# Altium schematic symbol library altera-cyclone.SchLib: 2 symbols
Pins are listed as number, name and electrical type; pins without a type are passive.

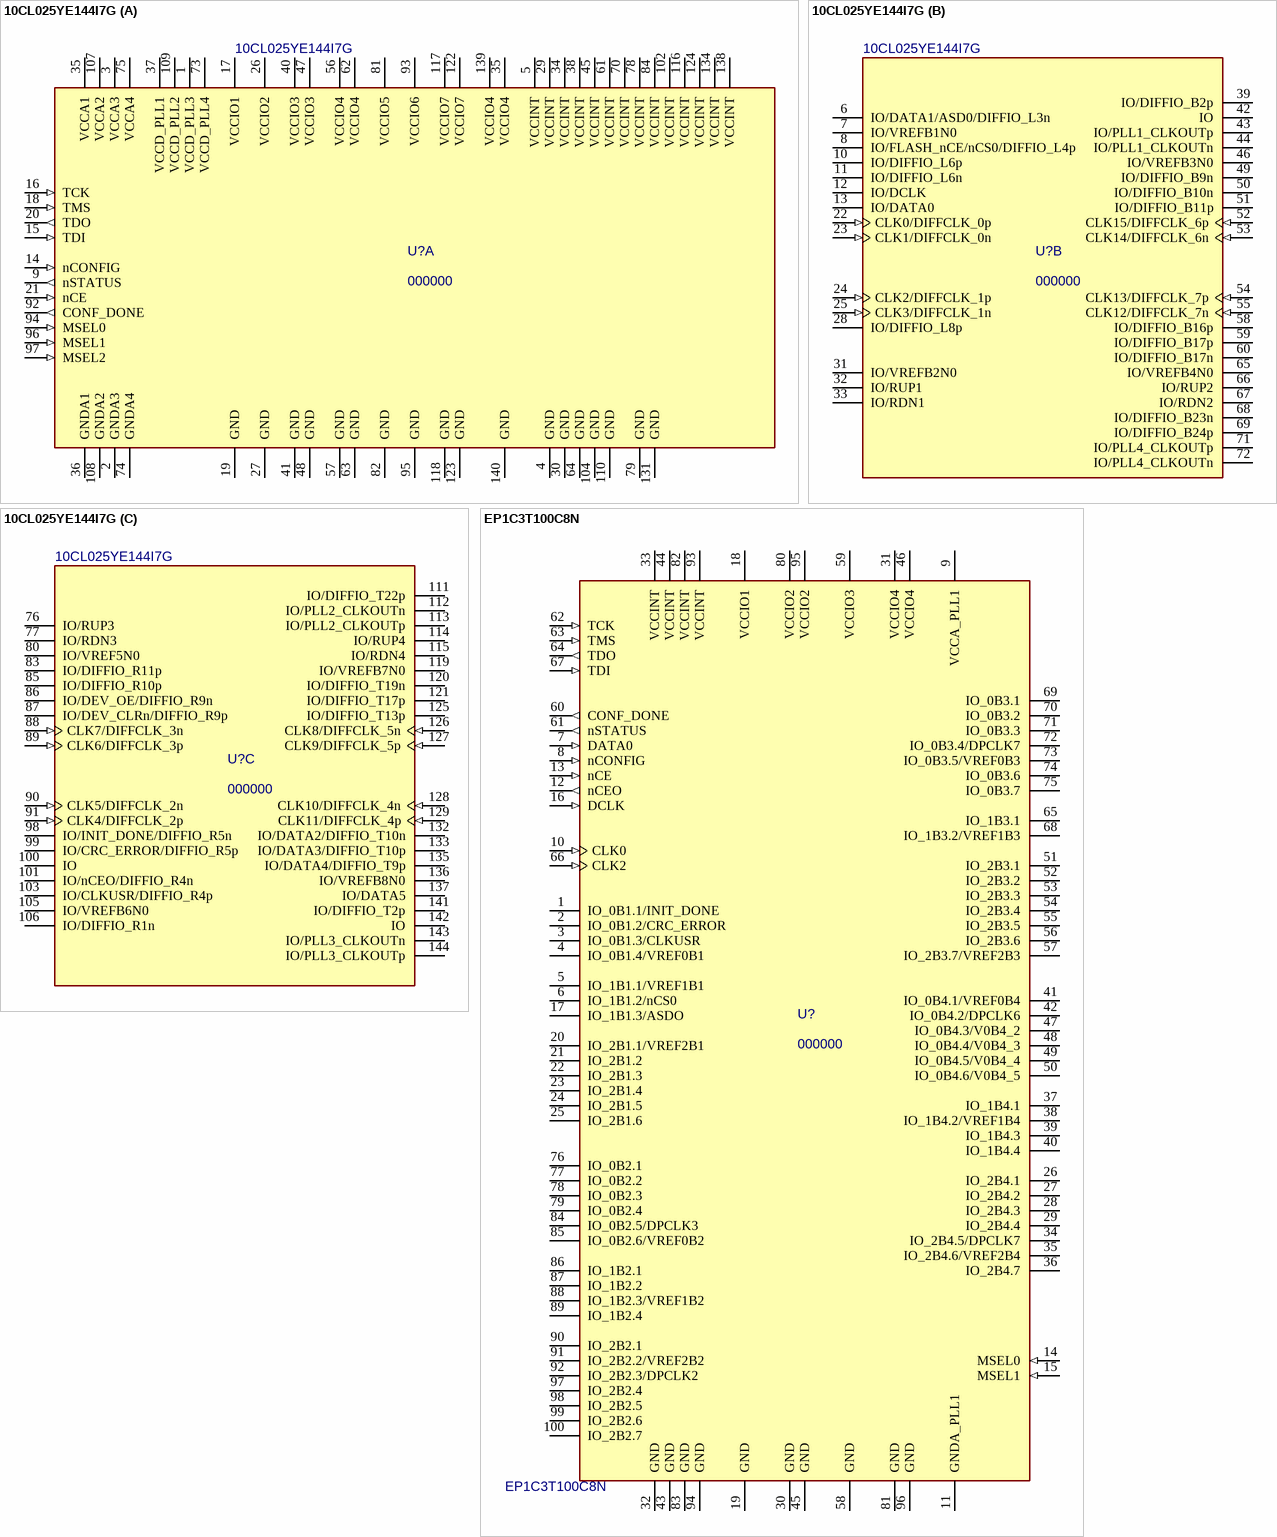
[diagram p0: symbols 10CL025YE144I7G to EP1C3T100C8N]

## 10CL025YE144I7G
designator U?, comment 000000  value 10CL025YE144I7G
MF: Xilinx; Package: 144-EQFP; PN: 000000; ExtraInfo: *; MF PN: 10CL025YE144I7G; Price: 25.93750; Digi-Key PN: 544-3390-ND
footprint EQFP-144 (TSQFP, 144-Leads, Body 20.00x20.00mm, Pitch 0.50mm, IPC Medium Density)
part A pins: 1 VCCD_PLL3 (power), 2 GNDA3 (power), 3 VCCA3 (power), 4 GND (power), 5 VCCINT (power), 9 nSTATUS (out), 14 nCONFIG (in), 15 TDI (in), 16 TCK (in), 17 VCCIO1 (power), 18 TMS (in), 19 GND (power), 20 TDO (out), 21 nCE (in), 26 VCCIO2 (power), 27 GND (power), 29 VCCINT (power), 30 GND (power), 34 VCCINT (power), 35 VCCA1 (power), 35 VCCIO4 (power), 36 GNDA1 (power), 37 VCCD_PLL1 (power), 38 VCCINT (power), 40 VCCIO3 (power), 41 GND (power), 45 VCCINT (power), 47 VCCIO3 (power), 48 GND (power), 56 VCCIO4 (power), 57 GND (power), 61 VCCINT (power), 62 VCCIO4 (power), 63 GND (power), 64 GND (power), 70 VCCINT (power), 73 VCCD_PLL4 (power), 74 GNDA4 (power), 75 VCCA4 (power), 78 VCCINT (power), 79 GND (power), 81 VCCIO5 (power), 82 GND (power), 84 VCCINT (power), 92 CONF_DONE (out), 93 VCCIO6 (power), 94 MSEL0 (in), 95 GND (power), 96 MSEL1 (in), 97 MSEL2 (in), 102 VCCINT (power), 104 GND (power), 107 VCCA2 (power), 108 GNDA2 (power), 109 VCCD_PLL2 (power), 110 GND (power), 116 VCCINT (power), 117 VCCIO7 (power), 118 GND (power), 122 VCCIO7 (power), 123 GND (power), 124 VCCINT (power), 131 GND (power), 134 VCCINT (power), 138 VCCINT (power), 139 VCCIO4 (power), 140 GND (power)
part B pins: 6 IO/DATA1/ASD0/DIFFIO_L3n, 7 IO/VREFB1N0, 8 IO/FLASH_nCE/nCS0/DIFFIO_L4p, 10 IO/DIFFIO_L6p, 11 IO/DIFFIO_L6n, 12 IO/DCLK, 13 IO/DATA0, 22 CLK0/DIFFCLK_0p (in), 23 CLK1/DIFFCLK_0n (in), 24 CLK2/DIFFCLK_1p (in), 25 CLK3/DIFFCLK_1n (in), 28 IO/DIFFIO_L8p, 31 IO/VREFB2N0, 32 IO/RUP1, 33 IO/RDN1, 39 IO/DIFFIO_B2p, 42 IO, 43 IO/PLL1_CLKOUTp, 44 IO/PLL1_CLKOUTn, 46 IO/VREFB3N0, 49 IO/DIFFIO_B9n, 50 IO/DIFFIO_B10n, 51 IO/DIFFIO_B11p, 52 CLK15/DIFFCLK_6p (in), 53 CLK14/DIFFCLK_6n (in), 54 CLK13/DIFFCLK_7p (in), 55 CLK12/DIFFCLK_7n (in), 58 IO/DIFFIO_B16p, 59 IO/DIFFIO_B17p, 60 IO/DIFFIO_B17n, 65 IO/VREFB4N0, 66 IO/RUP2, 67 IO/RDN2, 68 IO/DIFFIO_B23n, 69 IO/DIFFIO_B24p, 71 IO/PLL4_CLKOUTp, 72 IO/PLL4_CLKOUTn
part C pins: 76 IO/RUP3, 77 IO/RDN3, 80 IO/VREF5N0, 83 IO/DIFFIO_R11p, 85 IO/DIFFIO_R10p, 86 IO/DEV_OE/DIFFIO_R9n, 87 IO/DEV_CLRn/DIFFIO_R9p, 88 CLK7/DIFFCLK_3n (in), 89 CLK6/DIFFCLK_3p (in), 90 CLK5/DIFFCLK_2n (in), 91 CLK4/DIFFCLK_2p (in), 98 IO/INIT_DONE/DIFFIO_R5n, 99 IO/CRC_ERROR/DIFFIO_R5p, 100 IO, 101 IO/nCEO/DIFFIO_R4n, 103 IO/CLKUSR/DIFFIO_R4p, 105 IO/VREFB6N0, 106 IO/DIFFIO_R1n, 111 IO/DIFFIO_T22p, 112 IO/PLL2_CLKOUTn, 113 IO/PLL2_CLKOUTp, 114 IO/RUP4, 115 IO/RDN4, 119 IO/VREFB7N0, 120 IO/DIFFIO_T19n, 121 IO/DIFFIO_T17p, 125 IO/DIFFIO_T13p, 126 CLK8/DIFFCLK_5n (in), 127 CLK9/DIFFCLK_5p (in), 128 CLK10/DIFFCLK_4n (in), 129 CLK11/DIFFCLK_4p (in), 132 IO/DATA2/DIFFIO_T10n, 133 IO/DATA3/DIFFIO_T10p, 135 IO/DATA4/DIFFIO_T9p, 136 IO/VREFB8N0, 137 IO/DATA5, 141 IO/DIFFIO_T2p, 142 IO, 143 IO/PLL3_CLKOUTn, 144 IO/PLL3_CLKOUTp

## EP1C3T100C8N
designator U?, comment 000000  value EP1C3T100C8N
Package: 100-TQFP; PN: 000000; ExtraInfo: *
footprint TQFP-100 (TSQFP, 100-Leads, Body 16.2x16.2mm (max), Pitch 0.50mm, IPC High Density)
pins: 1 IO_0B1.1/INIT_DONE (hiz), 2 IO_0B1.2/CRC_ERROR (hiz), 3 IO_0B1.3/CLKUSR (hiz), 4 IO_0B1.4/VREF0B1 (hiz), 5 IO_1B1.1/VREF1B1 (hiz), 6 IO_1B1.2/nCS0 (hiz), 7 DATA0 (in), 8 nCONFIG (in), 9 VCCA_PLL1 (power), 10 CLK0 (in), 11 GNDA_PLL1 (power), 12 nCEO (out), 13 nCE (in), 14 MSEL0 (in), 15 MSEL1 (in), 16 DCLK (in), 17 IO_1B1.3/ASDO (hiz), 18 VCCIO1 (power), 19 GND (power), 20 IO_2B1.1/VREF2B1 (hiz), 21 IO_2B1.2 (hiz), 22 IO_2B1.3 (hiz), 23 IO_2B1.4 (hiz), 24 IO_2B1.5 (hiz), 25 IO_2B1.6 (hiz), 26 IO_2B4.1 (hiz), 27 IO_2B4.2 (hiz), 28 IO_2B4.3 (hiz), 29 IO_2B4.4 (hiz), 30 GND (power), 31 VCCIO4 (power), 32 GND (power), 33 VCCINT (power), 34 IO_2B4.5/DPCLK7 (hiz), 35 IO_2B4.6/VREF2B4 (hiz), 36 IO_2B4.7 (hiz), 37 IO_1B4.1 (hiz), 38 IO_1B4.2/VREF1B4 (hiz), 39 IO_1B4.3 (hiz), 40 IO_1B4.4 (hiz), 41 IO_0B4.1/VREF0B4 (hiz), 42 IO_0B4.2/DPCLK6 (hiz), 43 GND (power), 44 VCCINT (power), 45 GND (power), 46 VCCIO4 (power), 47 IO_0B4.3/V0B4_2 (hiz), 48 IO_0B4.4/V0B4_3 (hiz), 49 IO_0B4.5/V0B4_4 (hiz), 50 IO_0B4.6/V0B4_5 (hiz), 51 IO_2B3.1 (hiz), 52 IO_2B3.2 (hiz), 53 IO_2B3.3 (hiz), 54 IO_2B3.4 (hiz), 55 IO_2B3.5 (hiz), 56 IO_2B3.6 (hiz), 57 IO_2B3.7/VREF2B3 (hiz), 58 GND (power), 59 VCCIO3 (power), 60 CONF_DONE (out), 61 nSTATUS (out), 62 TCK (in), 63 TMS (in), 64 TDO (out), 65 IO_1B3.1 (hiz), 66 CLK2 (in), 67 TDI (in), 68 IO_1B3.2/VREF1B3 (hiz), 69 IO_0B3.1 (hiz), 70 IO_0B3.2 (hiz), 71 IO_0B3.3 (hiz), 72 IO_0B3.4/DPCLK7 (hiz), 73 IO_0B3.5/VREF0B3 (hiz), 74 IO_0B3.6 (hiz), 75 IO_0B3.7 (hiz), 76 IO_0B2.1 (hiz), 77 IO_0B2.2 (hiz), 78 IO_0B2.3 (hiz), 79 IO_0B2.4 (hiz), 80 VCCIO2 (power), 81 GND (power), 82 VCCINT (power), 83 GND (power), 84 IO_0B2.5/DPCLK3 (hiz), 85 IO_0B2.6/VREF0B2 (hiz), 86 IO_1B2.1 (hiz), 87 IO_1B2.2 (hiz), 88 IO_1B2.3/VREF1B2 (hiz), 89 IO_1B2.4 (hiz), 90 IO_2B2.1 (hiz), 91 IO_2B2.2/VREF2B2 (hiz), 92 IO_2B2.3/DPCLK2 (hiz), 93 VCCINT (power), 94 GND (power), 95 VCCIO2 (power), 96 GND (power), 97 IO_2B2.4 (hiz), 98 IO_2B2.5 (hiz), 99 IO_2B2.6 (hiz), 100 IO_2B2.7 (hiz)